# EAGLE library part BATTERY_CHARGER (library breakout-modules)
LiPo Battery charger TP4056 The input voltage: 5V Maximum charging current: 1000 mA Charge cut-off voltage: 4.2 V + / - 1% The battery overcharge protection voltage: 2.5 V Battery over-current protection current: 3 A
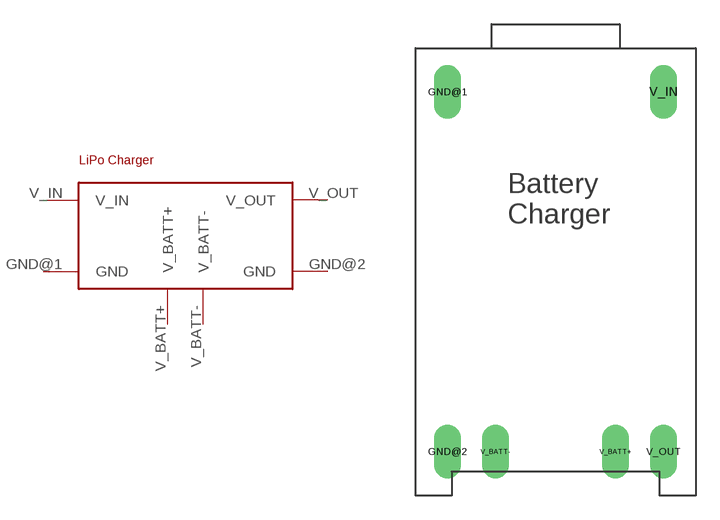
[diagram p0: symbol with the pads of BATTERY_CHARGER; footprint BATTERY_CHARGER]

Designator prefix -

## BATTERY_CHARGER  [BATTERY_CHARGER]
GND@1  GND
GND@2  GND
V_BATT+  V_BATT+
V_BATT-  V_BATT-
V_IN  V_IN
V_OUT  V_OUT

## Footprint BATTERY_CHARGER (pad centres in mm)
drill 0.5 pad 1.676 long: GND@1 -6.75,11.25; GND@2 -6.75,-11.25; V_BATT+ 3.75,-11.25; V_BATT- -3.75,-11.25; V_IN 6.75,11.25; V_OUT 6.75,-11.25